# Altium footprint library Buttons.PcbLib: 1 footprints
Each footprint in its own frame and in the unit in brackets; x right, y up, seen from the top. Pads: shape width x height; smd on the part's side, far side on the other; paste and mask are expansions set on the pad; w line width, h text height; cw(c..) or ccw(c..) is an arc to the next point about the centre after c.
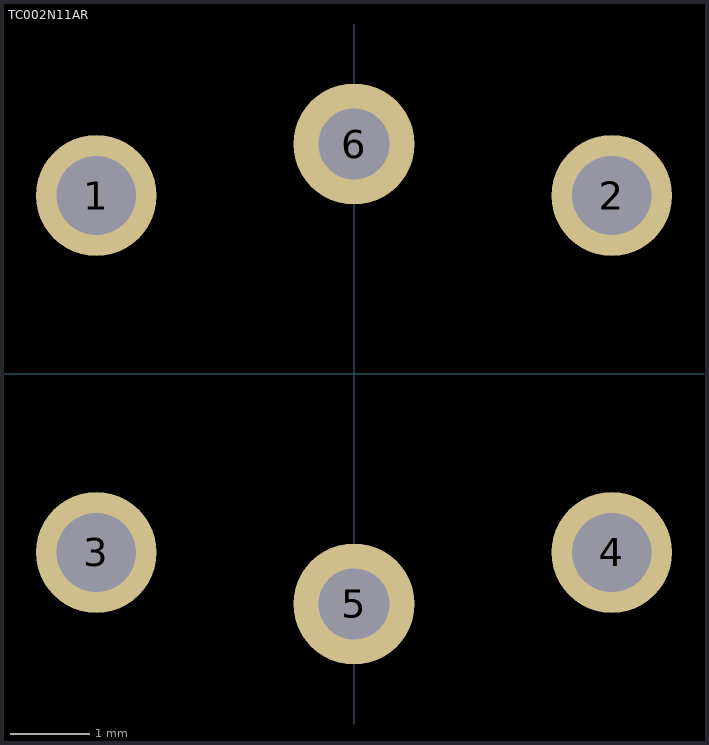
[diagram p0: the footprint, top view; thin cyan lines are the x and y axes]

## TC002N11AR [mm]
pads (6):
  round 1.524 hole 1: 1(-3.25,2.25) 2(3.25,2.25) 3(-3.25,-2.25) 4(3.25,-2.25)
  round 1.524 hole 0.9: 5(0,-2.9) 6(0,2.9)
3D body: height 8.3, standoff 7.5, extent -4,-4 3.968,3.984
3D body: height 7.5, standoff 4.8, extent -5,-5 4.961,4.98
3D body: height 4.8, standoff 0, extent -3,-3 3,3